# EAGLE library part JOHANSON-BM (library balun)
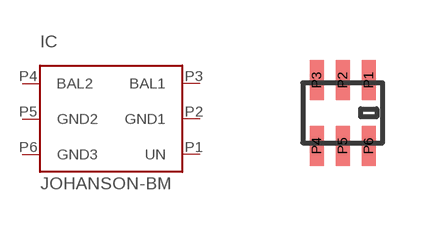
[diagram p0: symbol with the pads of JOHANSON-BM; footprint JOHANSON-BM]

Designator prefix IC

## JOHANSON-BM  [JOHANSON-BM]
P1  UN
P2  GND1  pwr
P3  BAL1
P4  BAL2
P5  GND2  pwr
P6  GND3  pwr

## Footprint JOHANSON-BM (pad centres in mm)
smd 0.35 x 1: P1 0.65,0.825; P2 0,0.825; P3 -0.65,0.825; P4 -0.65,-0.825; P5 0,-0.825; P6 0.65,-0.825